# Altium schematic symbol library ADR504x.SchLib: 1 symbol
Pins are listed as number, name and electrical type; pins without a type are passive.

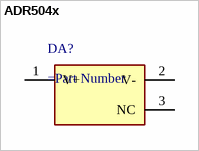
[diagram p0: symbol ADR504x]

## ADR504x
designator DA?
footprint ADI-RT-3_M (SOT23, 3-Leads, Body 2.9x1.3mm, Pitch 0.96mm, IPC Low Density)
footprint ADI-RT-3_L (SOT23, 3-Leads, Body 2.9x1.3mm, Pitch 0.96mm, IPC High Density)
footprint ADI-RT-3_N (SOT23, 3-Leads, Body 2.9x1.3mm, Pitch 0.96mm, IPC Medium Density)
pins: 1 V+ (power), 2 V- (power), 3 NC